# Altium schematic symbol library kmilo17pet-NSC_Interface.SchLib: 1433 symbols (part 21 of 51)
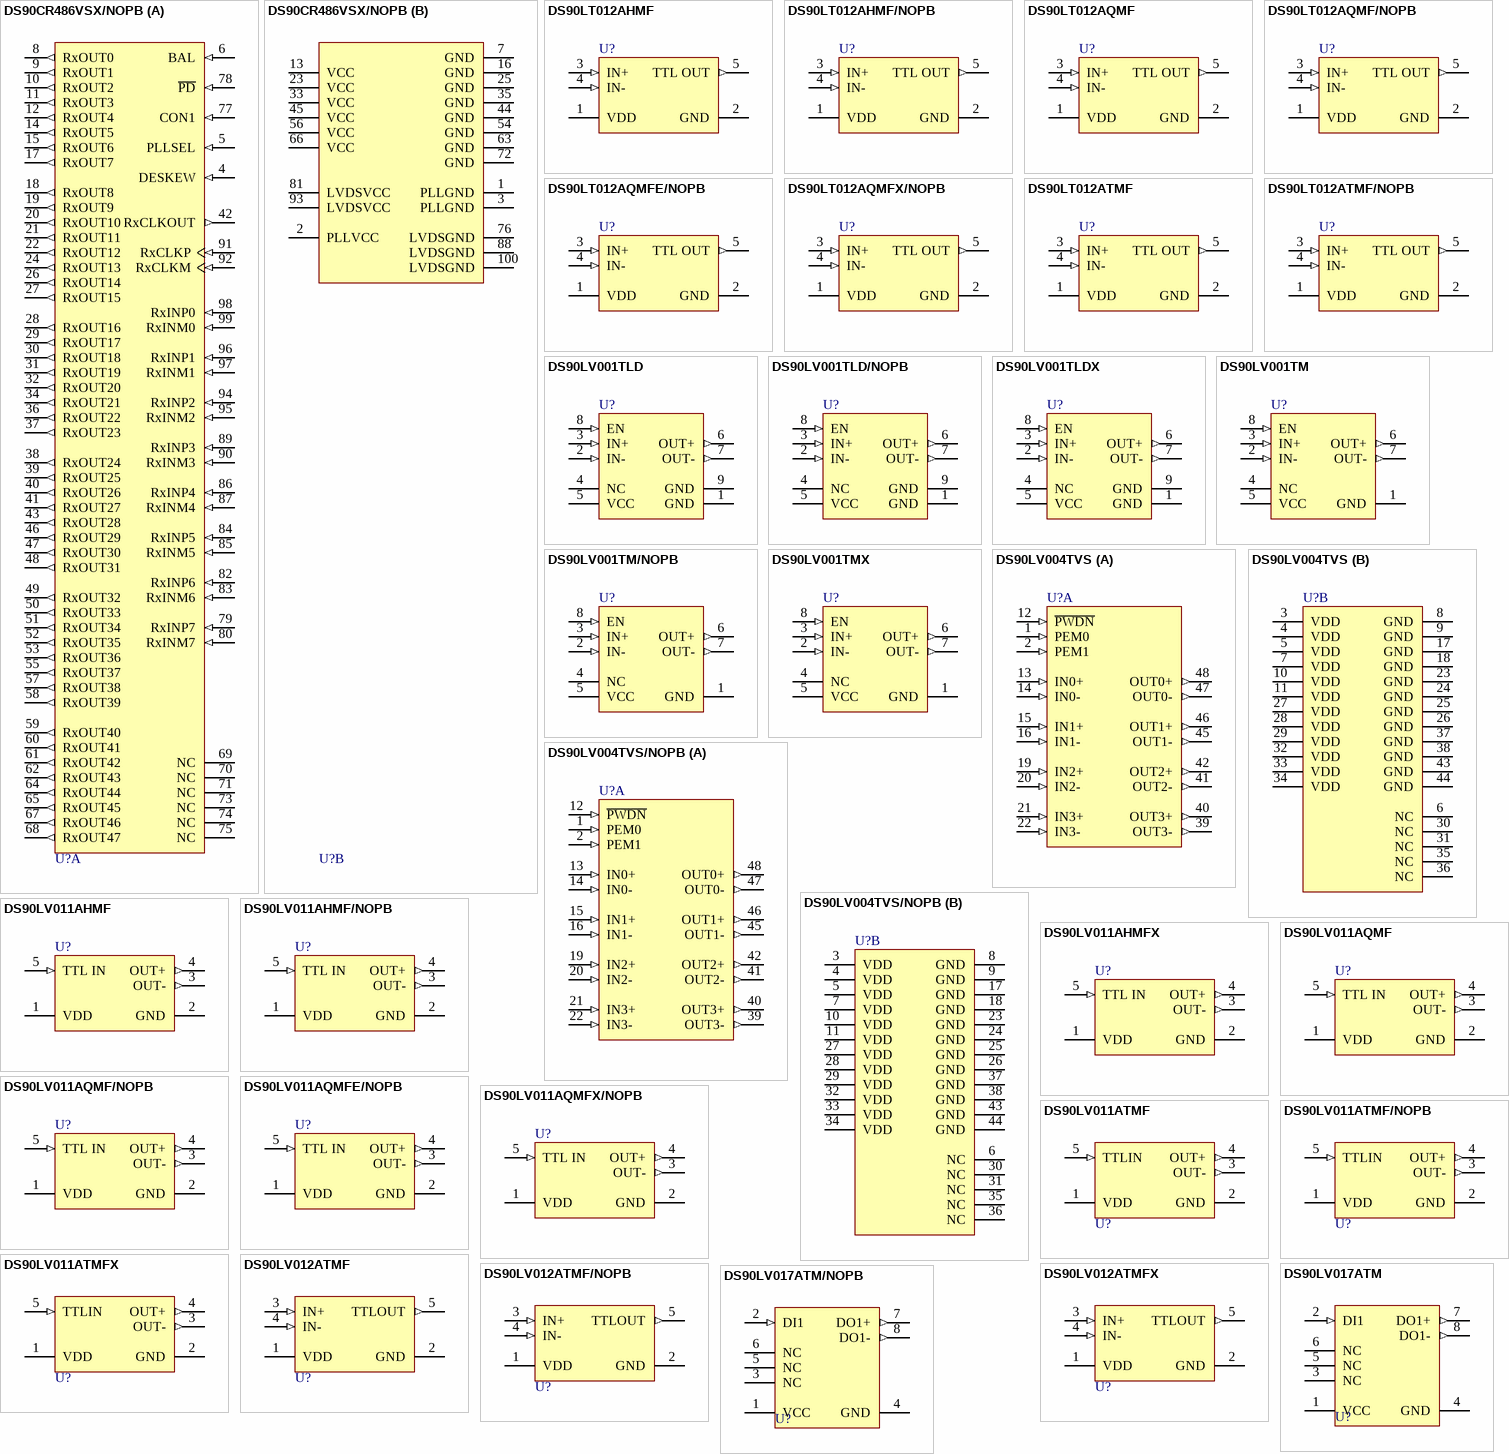
[diagram p144: symbols DS90CR486VSX/NOPB to DS90LV017ATM/NOPB]

## DS90LV004TVS/NOPB
designator U?
4-Channel LVDS Buffer/Repeaters with Pre-Emphasis, 48-pin TQFP, Pb-Free; PartNumber: DS90LV004TVS/NOPB; Manufacturer: National Semiconductor; PackageTopMarking: NSUZXYTT*DS90LV*004TVS; PowerWise: N; CompType: Interface IC; High-Reliability: Y; DatasheetVersion: Mar-2009; PackageVersion: revA, Apr-2000; PackageReference: VBC48A; PackageDescription: TQFP, Jedec Metric, 7 x 7 x 1mm, 48 Lead, 0.5mm Pitch; RoHS: Y; PinCount: 48; Code_JEDEC: MS-026-ABC; ComponentLink1Description: Manufacturer URL; ComponentLink1URL: http://www.national.com/; ComponentLink2Description: DS90LV004 Datasheet; ComponentLink2URL: http://www.national.com/ds/DS/DS90LV004.pdf; ComponentLink3Description: DS90LV004 Web Page; ComponentLink3URL: http://www.national.com/pf/DS/DS90LV004.html; ComponentLink4Description: VBC48A Package Page; ComponentLink4URL: http://www.national.com/packaging/folders/vbc48a.html
footprint VBC48A_N (Thin QFP, 48-Leads, Body 7x7mm, Pitch 0.5mm, IPC Medium Density)
footprint VBC48A_L (Thin QFP, 48-Leads, Body 7x7mm, Pitch 0.5mm, IPC High Density)
footprint VBC48A_M (Thin QFP, 48-Leads, Body 7x7mm, Pitch 0.5mm, IPC Low Density)
part A pins: 1 PEM0 (in), 2 PEM1 (in), 12 ~{PWDN} (in), 13 IN0+ (in), 14 IN0- (in), 15 IN1+ (in), 16 IN1- (in), 19 IN2+ (in), 20 IN2- (in), 21 IN3+ (in), 22 IN3- (in), 39 OUT3- (out), 40 OUT3+ (out), 41 OUT2- (out), 42 OUT2+ (out), 45 OUT1- (out), 46 OUT1+ (out), 47 OUT0- (out), 48 OUT0+ (out)
part B pins: 3 VDD (power), 4 VDD (power), 5 VDD (power), 6 NC, 7 VDD (power), 8 GND (power), 9 GND (power), 10 VDD (power), 11 VDD (power), 17 GND (power), 18 GND (power), 23 GND (power), 24 GND (power), 25 GND (power), 26 GND (power), 27 VDD (power), 28 VDD (power), 29 VDD (power), 30 NC, 31 NC, 32 VDD (power), 33 VDD (power), 34 VDD (power), 35 NC, 36 NC, 37 GND (power), 38 GND (power), 43 GND (power), 44 GND (power)

## DS90LV011AHMF
designator U?
High Temperature 3V LVDS Differential Driver, 5-pin SOT-23; PartNumber: DS90LV011AHMF; Manufacturer: National Semiconductor; PackageTopMarking: N04*XTT; PowerWise: N; CompType: Interface IC; High-Reliability: Y; DatasheetVersion: Sep-2005; PackageVersion: revD, Aug-2008; PackageReference: MF05A; PackageDescription: Molded SOT-23, .115 x .063 x .040 in Body, 5 Lead, .0375 in Pitch; RoHS: N; PinCount: 5; ComponentLink1Description: Manufacturer URL; ComponentLink1URL: http://www.national.com/; ComponentLink2Description: DS90LV011AH Datasheet; ComponentLink2URL: http://www.national.com/ds/DS/DS90LV011AH.pdf; ComponentLink3Description: DS90LV011AH Web Page; ComponentLink3URL: http://www.national.com/pf/DS/DS90LV011AH.html; ComponentLink4Description: MF05A Package Page; ComponentLink4URL: http://www.national.com/packaging/folders/mf05a.html
footprint MF05A_N (SOT23, 5-Leads, Body 2.9x1.6mm, Pitch 0.95mm, Lead Span 2.8mm, IPC Medium Density)
footprint MF05A_L (SOT23, 5-Leads, Body 2.9x1.6mm, Pitch 0.95mm, Lead Span 2.8mm, IPC High Density)
footprint MF05A_M (SOT23, 5-Leads, Body 2.9x1.6mm, Pitch 0.95mm, Lead Span 2.8mm, IPC Low Density)
pins: 1 VDD (power), 2 GND (power), 3 OUT- (out), 4 OUT+ (out), 5 TTL IN (in)

## DS90LV011AHMF/NOPB
designator U?
High Temperature 3V LVDS Differential Driver, 5 pin SOT-23; PartNumber: DS90LV011AHMF/NOPB; Manufacturer: National Semiconductor; PackageTopMarking: N04*XTT; PowerWise: N; CompType: Interface IC; High-Reliability: Y; DatasheetVersion: Sep-2005; PackageVersion: revD, Aug-2008; PackageReference: MF05A; PackageDescription: Molded SOT-23, .115 x .063 x .040 in Body, 5 Lead, .0375 in Pitch; RoHS: Y; PinCount: 5; ComponentLink1Description: Manufacturer URL; ComponentLink1URL: http://www.national.com/; ComponentLink2Description: DS90LV011AH Datasheet; ComponentLink2URL: http://www.national.com/ds/DS/DS90LV011AH.pdf; ComponentLink3Description: DS90LV011AH Web Page; ComponentLink3URL: http://www.national.com/pf/DS/DS90LV011AH.html; ComponentLink4Description: MF05A Package Page; ComponentLink4URL: http://www.national.com/packaging/folders/mf05a.html
footprint MF05A_N (SOT23, 5-Leads, Body 2.9x1.6mm, Pitch 0.95mm, Lead Span 2.8mm, IPC Medium Density)
footprint MF05A_L (SOT23, 5-Leads, Body 2.9x1.6mm, Pitch 0.95mm, Lead Span 2.8mm, IPC High Density)
footprint MF05A_M (SOT23, 5-Leads, Body 2.9x1.6mm, Pitch 0.95mm, Lead Span 2.8mm, IPC Low Density)
pins: 1 VDD (power), 2 GND (power), 3 OUT- (out), 4 OUT+ (out), 5 TTL IN (in)

## DS90LV011AHMFX
designator U?
High Temperature 3V LVDS Differential Driver, 5 pin SOT-23; PartNumber: DS90LV011AHMFX; Manufacturer: National Semiconductor; PackageTopMarking: N04*XTT; PowerWise: N; CompType: Interface IC; High-Reliability: Y; DatasheetVersion: Sep-2005; PackageVersion: revD, Aug-2008; PackageReference: MF05A; PackageDescription: Molded SOT-23, .115 x .063 x .040 in Body, 5 Lead, .0375 in Pitch; RoHS: N; PinCount: 5; ComponentLink1Description: Manufacturer URL; ComponentLink1URL: http://www.national.com/; ComponentLink2Description: DS90LV011AH Datasheet; ComponentLink2URL: http://www.national.com/ds/DS/DS90LV011AH.pdf; ComponentLink3Description: DS90LV011AH Web Page; ComponentLink3URL: http://www.national.com/pf/DS/DS90LV011AH.html; ComponentLink4Description: MF05A Package Page; ComponentLink4URL: http://www.national.com/packaging/folders/mf05a.html
footprint MF05A_N (SOT23, 5-Leads, Body 2.9x1.6mm, Pitch 0.95mm, Lead Span 2.8mm, IPC Medium Density)
footprint MF05A_L (SOT23, 5-Leads, Body 2.9x1.6mm, Pitch 0.95mm, Lead Span 2.8mm, IPC High Density)
footprint MF05A_M (SOT23, 5-Leads, Body 2.9x1.6mm, Pitch 0.95mm, Lead Span 2.8mm, IPC Low Density)
pins: 1 VDD (power), 2 GND (power), 3 OUT- (out), 4 OUT+ (out), 5 TTL IN (in)

## DS90LV011AQMF
designator U?
Automotive LVDS Differential Driver, 5-pin SOT-23; PartNumber: DS90LV011AQMF; Manufacturer: National Semiconductor; PackageTopMarking: N01Q*XTT; PowerWise: N; CompType: Interface IC; High-Reliability: Y; DatasheetVersion: Oct-2008; PackageVersion: revD, Aug-2008; PackageReference: MF05A; PackageDescription: Molded SOT-23, .115 x .063 x .040 in Body, 5 Lead, .0375 in Pitch; RoHS: Y; PinCount: 5; ComponentLink1Description: Manufacturer URL; ComponentLink1URL: http://www.national.com/; ComponentLink2Description: DS90LV011AQ Datasheet; ComponentLink2URL: http://www.national.com/ds/DS/DS90LV011AQ.pdf; ComponentLink3Description: DS90LV011AQ Web Page; ComponentLink3URL: http://www.national.com/pf/DS/DS90LV011AQ.html; ComponentLink4Description: MF05A Package Page; ComponentLink4URL: http://www.national.com/packaging/folders/mf05a.html
footprint MF05A_N (SOT23, 5-Leads, Body 2.9x1.6mm, Pitch 0.95mm, Lead Span 2.8mm, IPC Medium Density)
footprint MF05A_L (SOT23, 5-Leads, Body 2.9x1.6mm, Pitch 0.95mm, Lead Span 2.8mm, IPC High Density)
footprint MF05A_M (SOT23, 5-Leads, Body 2.9x1.6mm, Pitch 0.95mm, Lead Span 2.8mm, IPC Low Density)
pins: 1 VDD (power), 2 GND (power), 3 OUT- (out), 4 OUT+ (out), 5 TTL IN (in)

## DS90LV011AQMF/NOPB
designator U?
Automotive LVDS Differential Driver, 5-pin SOT-23, Pb-Free; PartNumber: DS90LV011AQMF/NOPB; Manufacturer: National Semiconductor; PackageTopMarking: N01Q*XTT; PowerWise: N; CompType: Interface IC; High-Reliability: Y; DatasheetVersion: Oct-2008; PackageVersion: revD, Aug-2008; PackageReference: MF05A; PackageDescription: Molded SOT-23, .115 x .063 x .040 in Body, 5 Lead, .0375 in Pitch; RoHS: Y; PinCount: 5; ComponentLink1Description: Manufacturer URL; ComponentLink1URL: http://www.national.com/; ComponentLink2Description: DS90LV011AQ Datasheet; ComponentLink2URL: http://www.national.com/ds/DS/DS90LV011AQ.pdf; ComponentLink3Description: DS90LV011AQ Web Page; ComponentLink3URL: http://www.national.com/pf/DS/DS90LV011AQ.html; ComponentLink4Description: MF05A Package Page; ComponentLink4URL: http://www.national.com/packaging/folders/mf05a.html
footprint MF05A_N (SOT23, 5-Leads, Body 2.9x1.6mm, Pitch 0.95mm, Lead Span 2.8mm, IPC Medium Density)
footprint MF05A_L (SOT23, 5-Leads, Body 2.9x1.6mm, Pitch 0.95mm, Lead Span 2.8mm, IPC High Density)
footprint MF05A_M (SOT23, 5-Leads, Body 2.9x1.6mm, Pitch 0.95mm, Lead Span 2.8mm, IPC Low Density)
pins: 1 VDD (power), 2 GND (power), 3 OUT- (out), 4 OUT+ (out), 5 TTL IN (in)

## DS90LV011AQMFE/NOPB
designator U?
Automotive LVDS Differential Driver, 5-pin SOT-23, Pb-Free; PartNumber: DS90LV011AQMFE/NOPB; Manufacturer: National Semiconductor; PackageTopMarking: N01Q*XTT; PowerWise: N; CompType: Interface IC; High-Reliability: Y; DatasheetVersion: Oct-2008; PackageVersion: revD, Aug-2008; PackageReference: MF05A; PackageDescription: Molded SOT-23, .115 x .063 x .040 in Body, 5 Lead, .0375 in Pitch; RoHS: Y; PinCount: 5; ComponentLink1Description: Manufacturer URL; ComponentLink1URL: http://www.national.com/; ComponentLink2Description: DS90LV011AQ Datasheet; ComponentLink2URL: http://www.national.com/ds/DS/DS90LV011AQ.pdf; ComponentLink3Description: DS90LV011AQ Web Page; ComponentLink3URL: http://www.national.com/pf/DS/DS90LV011AQ.html; ComponentLink4Description: MF05A Package Page; ComponentLink4URL: http://www.national.com/packaging/folders/mf05a.html
footprint MF05A_N (SOT23, 5-Leads, Body 2.9x1.6mm, Pitch 0.95mm, Lead Span 2.8mm, IPC Medium Density)
footprint MF05A_L (SOT23, 5-Leads, Body 2.9x1.6mm, Pitch 0.95mm, Lead Span 2.8mm, IPC High Density)
footprint MF05A_M (SOT23, 5-Leads, Body 2.9x1.6mm, Pitch 0.95mm, Lead Span 2.8mm, IPC Low Density)
pins: 1 VDD (power), 2 GND (power), 3 OUT- (out), 4 OUT+ (out), 5 TTL IN (in)

## DS90LV011AQMFX/NOPB
designator U?
Automotive LVDS Differential Driver, 5-pin SOT-23, Pb-Free; PartNumber: DS90LV011AQMFX/NOPB; Manufacturer: National Semiconductor; PackageTopMarking: N01Q*XTT; PowerWise: N; CompType: Interface IC; High-Reliability: Y; DatasheetVersion: Oct-2008; PackageVersion: revD, Aug-2008; PackageReference: MF05A; PackageDescription: Molded SOT-23, .115 x .063 x .040 in Body, 5 Lead, .0375 in Pitch; RoHS: Y; PinCount: 5; ComponentLink1Description: Manufacturer URL; ComponentLink1URL: http://www.national.com/; ComponentLink2Description: DS90LV011AQ Datasheet; ComponentLink2URL: http://www.national.com/ds/DS/DS90LV011AQ.pdf; ComponentLink3Description: DS90LV011AQ Web Page; ComponentLink3URL: http://www.national.com/pf/DS/DS90LV011AQ.html; ComponentLink4Description: MF05A Package Page; ComponentLink4URL: http://www.national.com/packaging/folders/mf05a.html
footprint MF05A_N (SOT23, 5-Leads, Body 2.9x1.6mm, Pitch 0.95mm, Lead Span 2.8mm, IPC Medium Density)
footprint MF05A_L (SOT23, 5-Leads, Body 2.9x1.6mm, Pitch 0.95mm, Lead Span 2.8mm, IPC High Density)
footprint MF05A_M (SOT23, 5-Leads, Body 2.9x1.6mm, Pitch 0.95mm, Lead Span 2.8mm, IPC Low Density)
pins: 1 VDD (power), 2 GND (power), 3 OUT- (out), 4 OUT+ (out), 5 TTL IN (in)

## DS90LV011ATMF
designator U?
Single High Speed Differential Driver, 5-pin SOT-23; PartNumber: DS90LV011ATMF; Manufacturer: National Semiconductor; PackageTopMarking: N01*XTT; PowerWise: N; CompType: Interface IC; High-Reliability: Y; DatasheetVersion: Apr-2009; PackageVersion: revD, Aug-2008; PackageReference: MF05A; PackageDescription: Molded SOT-23, .115 x .063 x .040 in Body, 5 Lead, .0375 in Pitch; RoHS: N; PinCount: 5; ComponentLink1Description: Manufacturer URL; ComponentLink1URL: http://www.national.com/; ComponentLink2Description: DS90LV011A Datasheet; ComponentLink2URL: http://www.national.com/ds/DS/DS90LV011A.pdf; ComponentLink3Description: DS90LV011A Web Page; ComponentLink3URL: http://www.national.com/pf/DS/DS90LV011A.html; ComponentLink4Description: MF05A Package Page; ComponentLink4URL: http://www.national.com/packaging/folders/mf05a.html
footprint MF05A_N (SOT23, 5-Leads, Body 2.9x1.6mm, Pitch 0.95mm, Lead Span 2.8mm, IPC Medium Density)
footprint MF05A_L (SOT23, 5-Leads, Body 2.9x1.6mm, Pitch 0.95mm, Lead Span 2.8mm, IPC High Density)
footprint MF05A_M (SOT23, 5-Leads, Body 2.9x1.6mm, Pitch 0.95mm, Lead Span 2.8mm, IPC Low Density)
pins: 1 VDD (power), 2 GND (power), 3 OUT- (out), 4 OUT+ (out), 5 TTLIN (in)

## DS90LV011ATMF/NOPB
designator U?
Single High Speed Differential Driver, 5-pin SOT-23, Pb-Free; PartNumber: DS90LV011ATMF/NOPB; Manufacturer: National Semiconductor; PackageTopMarking: N01*XTT; PowerWise: N; CompType: Interface IC; High-Reliability: Y; DatasheetVersion: Apr-2009; PackageVersion: revD, Aug-2008; PackageReference: MF05A; PackageDescription: Molded SOT-23, .115 x .063 x .040 in Body, 5 Lead, .0375 in Pitch; RoHS: Y; PinCount: 5; ComponentLink1Description: Manufacturer URL; ComponentLink1URL: http://www.national.com/; ComponentLink2Description: DS90LV011A Datasheet; ComponentLink2URL: http://www.national.com/ds/DS/DS90LV011A.pdf; ComponentLink3Description: DS90LV011A Web Page; ComponentLink3URL: http://www.national.com/pf/DS/DS90LV011A.html; ComponentLink4Description: MF05A Package Page; ComponentLink4URL: http://www.national.com/packaging/folders/mf05a.html
footprint MF05A_N (SOT23, 5-Leads, Body 2.9x1.6mm, Pitch 0.95mm, Lead Span 2.8mm, IPC Medium Density)
footprint MF05A_L (SOT23, 5-Leads, Body 2.9x1.6mm, Pitch 0.95mm, Lead Span 2.8mm, IPC High Density)
footprint MF05A_M (SOT23, 5-Leads, Body 2.9x1.6mm, Pitch 0.95mm, Lead Span 2.8mm, IPC Low Density)
pins: 1 VDD (power), 2 GND (power), 3 OUT- (out), 4 OUT+ (out), 5 TTLIN (in)

## DS90LV011ATMFX
designator U?
Single High Speed Differential Driver, 5-pin SOT-23; PartNumber: DS90LV011ATMFX; Manufacturer: National Semiconductor; PackageTopMarking: N01*XTT; PowerWise: N; CompType: Interface IC; High-Reliability: Y; DatasheetVersion: Apr-2009; PackageVersion: revD, Aug-2008; PackageReference: MF05A; PackageDescription: Molded SOT-23, .115 x .063 x .040 in Body, 5 Lead, .0375 in Pitch; RoHS: N; PinCount: 5; ComponentLink1Description: Manufacturer URL; ComponentLink1URL: http://www.national.com/; ComponentLink2Description: DS90LV011A Datasheet; ComponentLink2URL: http://www.national.com/ds/DS/DS90LV011A.pdf; ComponentLink3Description: DS90LV011A Web Page; ComponentLink3URL: http://www.national.com/pf/DS/DS90LV011A.html; ComponentLink4Description: MF05A Package Page; ComponentLink4URL: http://www.national.com/packaging/folders/mf05a.html
footprint MF05A_N (SOT23, 5-Leads, Body 2.9x1.6mm, Pitch 0.95mm, Lead Span 2.8mm, IPC Medium Density)
footprint MF05A_L (SOT23, 5-Leads, Body 2.9x1.6mm, Pitch 0.95mm, Lead Span 2.8mm, IPC High Density)
footprint MF05A_M (SOT23, 5-Leads, Body 2.9x1.6mm, Pitch 0.95mm, Lead Span 2.8mm, IPC Low Density)
pins: 1 VDD (power), 2 GND (power), 3 OUT- (out), 4 OUT+ (out), 5 TTLIN (in)

## DS90LV012ATMF
designator U?
3V LVDS Single CMOS Differential Line Receiver, 5-pin SOT-23; PartNumber: DS90LV012ATMF; Manufacturer: National Semiconductor; PackageTopMarking: N02*XTT; PowerWise: N; CompType: Interface IC; High-Reliability: Y; DatasheetVersion: Mar-2008; PackageVersion: revD, Aug-2008; PackageReference: MF05A; PackageDescription: Molded SOT-23, .115 x .063 x .040 in Body, 5 Lead, .0375 in Pitch; RoHS: N; PinCount: 5; ComponentLink1Description: Manufacturer URL; ComponentLink1URL: http://www.national.com/; ComponentLink2Description: DS90LV012A Datasheet; ComponentLink2URL: http://www.national.com/ds/DS/DS90LV012A.pdf; ComponentLink3Description: DS90LV012A Web Page; ComponentLink3URL: http://www.national.com/pf/DS/DS90LV012A.html; ComponentLink4Description: MF05A Package Page; ComponentLink4URL: http://www.national.com/packaging/folders/mf05a.html
footprint MF05A_N (SOT23, 5-Leads, Body 2.9x1.6mm, Pitch 0.95mm, Lead Span 2.8mm, IPC Medium Density)
footprint MF05A_L (SOT23, 5-Leads, Body 2.9x1.6mm, Pitch 0.95mm, Lead Span 2.8mm, IPC High Density)
footprint MF05A_M (SOT23, 5-Leads, Body 2.9x1.6mm, Pitch 0.95mm, Lead Span 2.8mm, IPC Low Density)
pins: 1 VDD (power), 2 GND (power), 3 IN+ (in), 4 IN- (in), 5 TTLOUT (out)

## DS90LV012ATMF/NOPB
designator U?
3V LVDS Single CMOS Differential Line Receiver, 5-pin SOT-23, Pb-Free; PartNumber: DS90LV012ATMF/NOPB; Manufacturer: National Semiconductor; PackageTopMarking: N02*XTT; PowerWise: N; CompType: Interface IC; High-Reliability: Y; DatasheetVersion: Mar-2008; PackageVersion: revD, Aug-2008; PackageReference: MF05A; PackageDescription: Molded SOT-23, .115 x .063 x .040 in Body, 5 Lead, .0375 in Pitch; RoHS: Y; PinCount: 5; ComponentLink1Description: Manufacturer URL; ComponentLink1URL: http://www.national.com/; ComponentLink2Description: DS90LV012A Datasheet; ComponentLink2URL: http://www.national.com/ds/DS/DS90LV012A.pdf; ComponentLink3Description: DS90LV012A Web Page; ComponentLink3URL: http://www.national.com/pf/DS/DS90LV012A.html; ComponentLink4Description: MF05A Package Page; ComponentLink4URL: http://www.national.com/packaging/folders/mf05a.html
footprint MF05A_N (SOT23, 5-Leads, Body 2.9x1.6mm, Pitch 0.95mm, Lead Span 2.8mm, IPC Medium Density)
footprint MF05A_L (SOT23, 5-Leads, Body 2.9x1.6mm, Pitch 0.95mm, Lead Span 2.8mm, IPC High Density)
footprint MF05A_M (SOT23, 5-Leads, Body 2.9x1.6mm, Pitch 0.95mm, Lead Span 2.8mm, IPC Low Density)
pins: 1 VDD (power), 2 GND (power), 3 IN+ (in), 4 IN- (in), 5 TTLOUT (out)

## DS90LV012ATMFX
designator U?
3V LVDS Single CMOS Differential Line Receiver, 5-pin SOT-23; PartNumber: DS90LV012ATMFX; Manufacturer: National Semiconductor; PackageTopMarking: N02*XTT; PowerWise: N; CompType: Interface IC; High-Reliability: Y; DatasheetVersion: Mar-2008; PackageVersion: revD, Aug-2008; PackageReference: MF05A; PackageDescription: Molded SOT-23, .115 x .063 x .040 in Body, 5 Lead, .0375 in Pitch; RoHS: N; PinCount: 5; ComponentLink1Description: Manufacturer URL; ComponentLink1URL: http://www.national.com/; ComponentLink2Description: DS90LV012A Datasheet; ComponentLink2URL: http://www.national.com/ds/DS/DS90LV012A.pdf; ComponentLink3Description: DS90LV012A Web Page; ComponentLink3URL: http://www.national.com/pf/DS/DS90LV012A.html; ComponentLink4Description: MF05A Package Page; ComponentLink4URL: http://www.national.com/packaging/folders/mf05a.html
footprint MF05A_N (SOT23, 5-Leads, Body 2.9x1.6mm, Pitch 0.95mm, Lead Span 2.8mm, IPC Medium Density)
footprint MF05A_L (SOT23, 5-Leads, Body 2.9x1.6mm, Pitch 0.95mm, Lead Span 2.8mm, IPC High Density)
footprint MF05A_M (SOT23, 5-Leads, Body 2.9x1.6mm, Pitch 0.95mm, Lead Span 2.8mm, IPC Low Density)
pins: 1 VDD (power), 2 GND (power), 3 IN+ (in), 4 IN- (in), 5 TTLOUT (out)

## DS90LV017ATM
designator U?
Single High Speed Differential Driver, 8-pin Narrow SOIC; PartNumber: DS90LV017ATM; Manufacturer: National Semiconductor; PackageTopMarking: NSZXTT*LV17A*TM; PowerWise: N; CompType: Interface IC; High-Reliability: Y; DatasheetVersion: Aug-2005; PackageVersion: revM, May-2009; PackageReference: M08A; PackageDescription: SOIC Narrow, 4.9 x 3.9 x 1.45mm, 8 Lead, 1.27mm Pitch; RoHS: N; PinCount: 8; Code_JEDEC: MS-012-AA; Code_IPC: SOIC127P600-8; ComponentLink1Description: Manufacturer URL; ComponentLink1URL: http://www.national.com/; ComponentLink2Description: DS90LV017A Datasheet; ComponentLink2URL: http://www.national.com/ds/DS/DS90LV017A.pdf; ComponentLink3Description: DS90LV017A Web Page; ComponentLink3URL: http://www.national.com/pf/DS/DS90LV017A.html; ComponentLink4Description: M08A Package Page; ComponentLink4URL: http://www.national.com/packaging/folders/m08a.html
footprint M08A_N (SOIC, 8-Leads, Body 4.9x3.9mm, Pitch 1.27mm, IPC Medium Density)
footprint M08A_L (SOIC, 8-Leads, Body 4.9x3.9mm, Pitch 1.27mm, IPC High Density)
footprint M08A_M (SOIC, 8-Leads, Body 4.9x3.9mm, Pitch 1.27mm, IPC Low Density)
pins: 1 VCC (power), 2 DI1 (in), 3 NC, 4 GND (power), 5 NC, 6 NC, 7 DO1+ (out), 8 DO1- (out)

## DS90LV017ATM/NOPB
designator U?
Single High Speed Differential Driver, 8-pin Narrow SOIC, Pb-Free; PartNumber: DS90LV017ATM/NOPB; Manufacturer: National Semiconductor; PackageTopMarking: NSZXTT*LV17A*TM; PowerWise: N; CompType: Interface IC; High-Reliability: Y; DatasheetVersion: Aug-2005; PackageVersion: revM, May-2009; PackageReference: M08A; PackageDescription: SOIC Narrow, 4.9 x 3.9 x 1.45mm, 8 Lead, 1.27mm Pitch; RoHS: Y; PinCount: 8; Code_JEDEC: MS-012-AA; Code_IPC: SOIC127P600-8; ComponentLink1Description: Manufacturer URL; ComponentLink1URL: http://www.national.com/; ComponentLink2Description: DS90LV017A Datasheet; ComponentLink2URL: http://www.national.com/ds/DS/DS90LV017A.pdf; ComponentLink3Description: DS90LV017A Web Page; ComponentLink3URL: http://www.national.com/pf/DS/DS90LV017A.html; ComponentLink4Description: M08A Package Page; ComponentLink4URL: http://www.national.com/packaging/folders/m08a.html
footprint M08A_N (SOIC, 8-Leads, Body 4.9x3.9mm, Pitch 1.27mm, IPC Medium Density)
footprint M08A_L (SOIC, 8-Leads, Body 4.9x3.9mm, Pitch 1.27mm, IPC High Density)
footprint M08A_M (SOIC, 8-Leads, Body 4.9x3.9mm, Pitch 1.27mm, IPC Low Density)
pins: 1 VCC (power), 2 DI1 (in), 3 NC, 4 GND (power), 5 NC, 6 NC, 7 DO1+ (out), 8 DO1- (out)

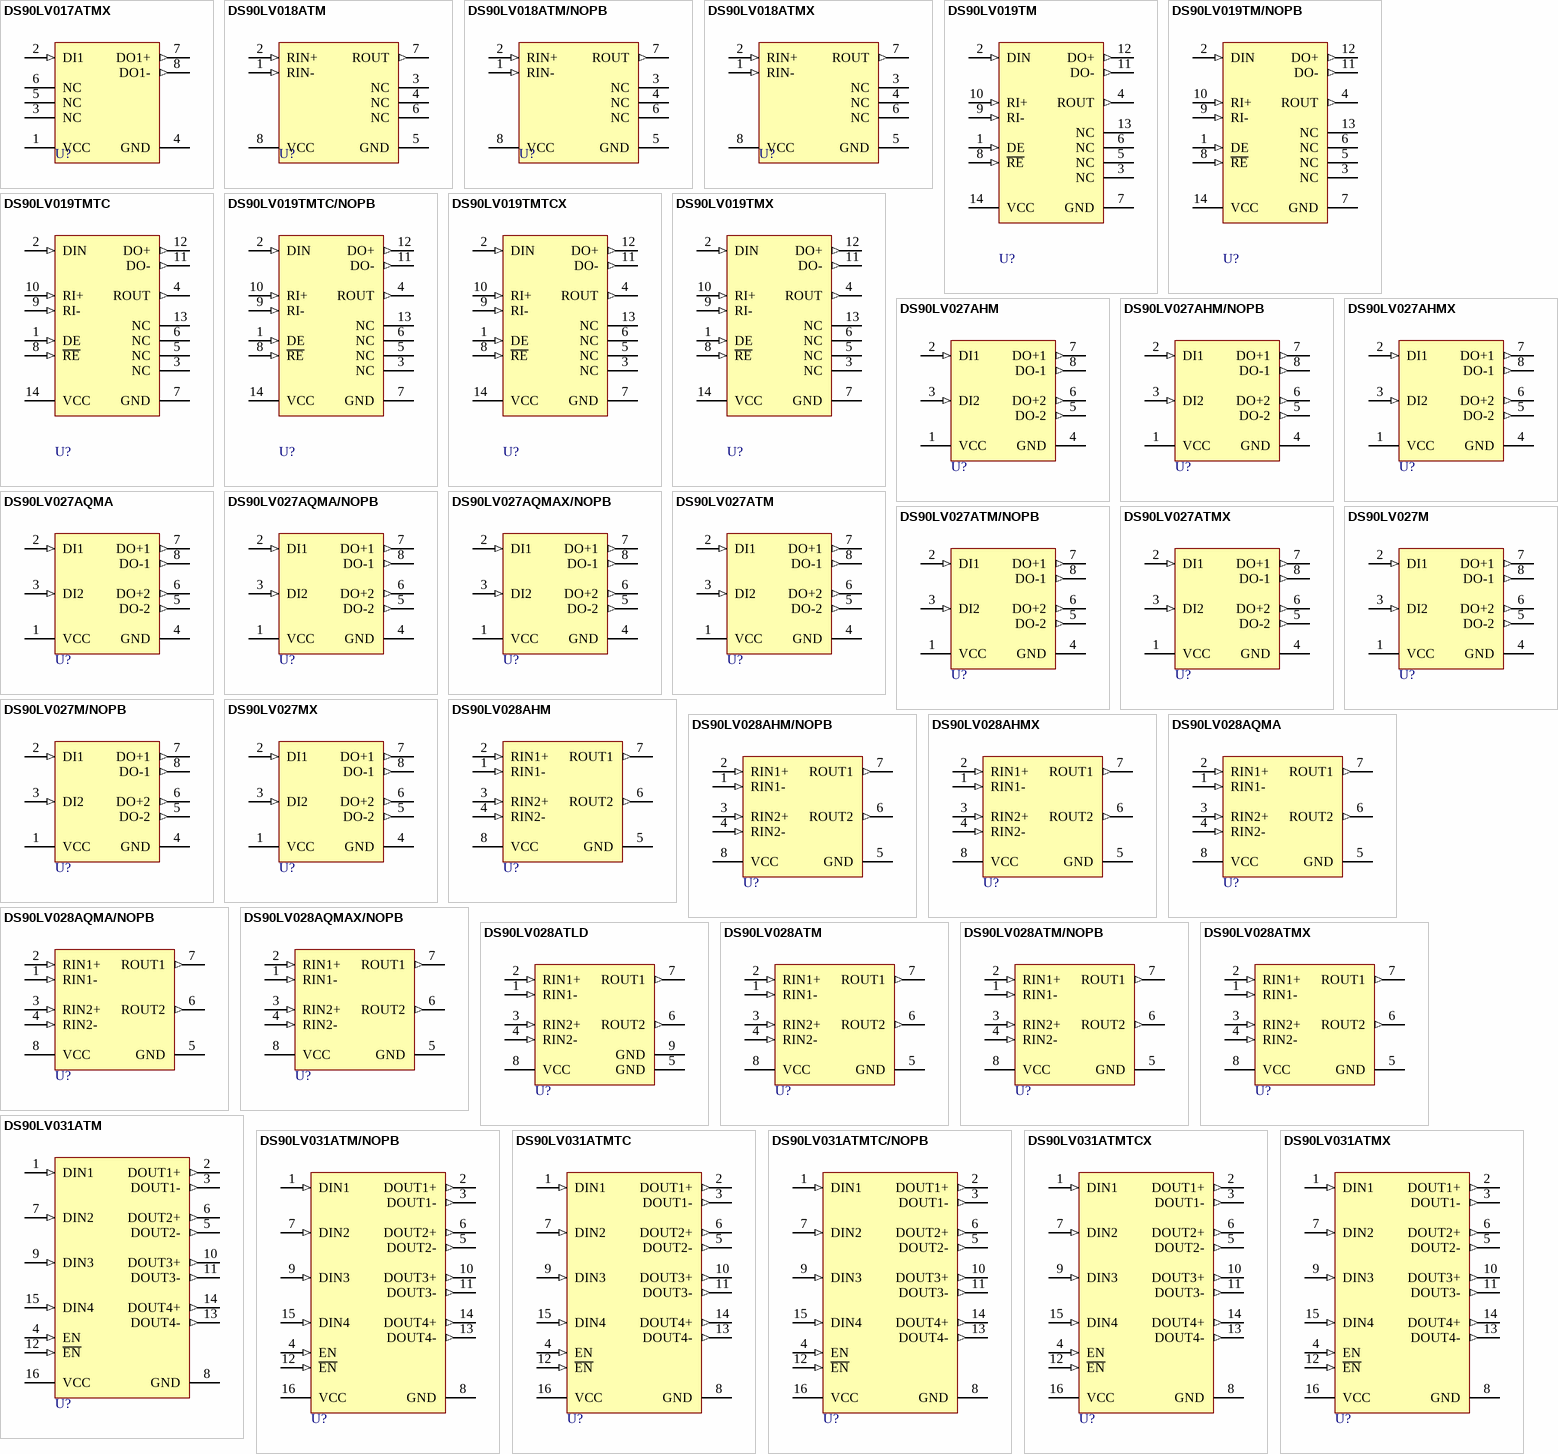
[diagram p60: symbols DS90LV017ATMX to DS90LV031ATMX]

## DS90LV017ATMX
designator U?
Single High Speed Differential Driver, 8-pin Narrow SOIC; PartNumber: DS90LV017ATMX; Manufacturer: National Semiconductor; PackageTopMarking: NSZXTT*LV17A*TM; PowerWise: N; CompType: Interface IC; High-Reliability: Y; DatasheetVersion: Aug-2005; PackageVersion: revM, May-2009; PackageReference: M08A; PackageDescription: SOIC Narrow, 4.9 x 3.9 x 1.45mm, 8 Lead, 1.27mm Pitch; RoHS: N; PinCount: 8; Code_JEDEC: MS-012-AA; Code_IPC: SOIC127P600-8; ComponentLink1Description: Manufacturer URL; ComponentLink1URL: http://www.national.com/; ComponentLink2Description: DS90LV017A Datasheet; ComponentLink2URL: http://www.national.com/ds/DS/DS90LV017A.pdf; ComponentLink3Description: DS90LV017A Web Page; ComponentLink3URL: http://www.national.com/pf/DS/DS90LV017A.html; ComponentLink4Description: M08A Package Page; ComponentLink4URL: http://www.national.com/packaging/folders/m08a.html
footprint M08A_N (SOIC, 8-Leads, Body 4.9x3.9mm, Pitch 1.27mm, IPC Medium Density)
footprint M08A_L (SOIC, 8-Leads, Body 4.9x3.9mm, Pitch 1.27mm, IPC High Density)
footprint M08A_M (SOIC, 8-Leads, Body 4.9x3.9mm, Pitch 1.27mm, IPC Low Density)
pins: 1 VCC (power), 2 DI1 (in), 3 NC, 4 GND (power), 5 NC, 6 NC, 7 DO1+ (out), 8 DO1- (out)

## DS90LV018ATM
designator U?
3V LVDS Single CMOS Differential Line Receiver, 8-pin Narrow SOIC; PartNumber: DS90LV018ATM; Manufacturer: National Semiconductor; PackageTopMarking: NSZXTT*90LV0*18ATM; PowerWise: N; CompType: Interface IC; High-Reliability: Y; DatasheetVersion: Aug-2005; PackageVersion: revM, May-2009; PackageReference: M08A; PackageDescription: SOIC Narrow, 4.9 x 3.9 x 1.45mm, 8 Lead, 1.27mm Pitch; RoHS: N; PinCount: 8; Code_JEDEC: MS-012-AA; Code_IPC: SOIC127P600-8; ComponentLink1Description: Manufacturer URL; ComponentLink1URL: http://www.national.com/; ComponentLink2Description: DS90LV018A Datasheet; ComponentLink2URL: http://www.national.com/ds/DS/DS90LV018A.pdf; ComponentLink3Description: DS90LV018A Web Page; ComponentLink3URL: http://www.national.com/pf/DS/DS90LV018A.html; ComponentLink4Description: M08A Package Page; ComponentLink4URL: http://www.national.com/packaging/folders/m08a.html
footprint M08A_N (SOIC, 8-Leads, Body 4.9x3.9mm, Pitch 1.27mm, IPC Medium Density)
footprint M08A_L (SOIC, 8-Leads, Body 4.9x3.9mm, Pitch 1.27mm, IPC High Density)
footprint M08A_M (SOIC, 8-Leads, Body 4.9x3.9mm, Pitch 1.27mm, IPC Low Density)
pins: 1 RIN- (in), 2 RIN+ (in), 3 NC, 4 NC, 5 GND (power), 6 NC, 7 ROUT (out), 8 VCC (power)

## DS90LV018ATM/NOPB
designator U?
3V LVDS Single CMOS Differential Line Receiver, 8-pin Narrow SOIC, Pb-Free; PartNumber: DS90LV018ATM/NOPB; Manufacturer: National Semiconductor; PackageTopMarking: NSZXTT*90LV0*18ATM; PowerWise: N; CompType: Interface IC; High-Reliability: Y; DatasheetVersion: Aug-2005; PackageVersion: revM, May-2009; PackageReference: M08A; PackageDescription: SOIC Narrow, 4.9 x 3.9 x 1.45mm, 8 Lead, 1.27mm Pitch; RoHS: Y; PinCount: 8; Code_JEDEC: MS-012-AA; Code_IPC: SOIC127P600-8; ComponentLink1Description: Manufacturer URL; ComponentLink1URL: http://www.national.com/; ComponentLink2Description: DS90LV018A Datasheet; ComponentLink2URL: http://www.national.com/ds/DS/DS90LV018A.pdf; ComponentLink3Description: DS90LV018A Web Page; ComponentLink3URL: http://www.national.com/pf/DS/DS90LV018A.html; ComponentLink4Description: M08A Package Page; ComponentLink4URL: http://www.national.com/packaging/folders/m08a.html
footprint M08A_N (SOIC, 8-Leads, Body 4.9x3.9mm, Pitch 1.27mm, IPC Medium Density)
footprint M08A_L (SOIC, 8-Leads, Body 4.9x3.9mm, Pitch 1.27mm, IPC High Density)
footprint M08A_M (SOIC, 8-Leads, Body 4.9x3.9mm, Pitch 1.27mm, IPC Low Density)
pins: 1 RIN- (in), 2 RIN+ (in), 3 NC, 4 NC, 5 GND (power), 6 NC, 7 ROUT (out), 8 VCC (power)

## DS90LV018ATMX
designator U?
3V LVDS Single CMOS Differential Line Receiver, 8-pin Narrow SOIC; PartNumber: DS90LV018ATMX; Manufacturer: National Semiconductor; PackageTopMarking: NSZXTT*90LV0*18ATM; PowerWise: N; CompType: Interface IC; High-Reliability: Y; DatasheetVersion: Aug-2005; PackageVersion: revM, May-2009; PackageReference: M08A; PackageDescription: SOIC Narrow, 4.9 x 3.9 x 1.45mm, 8 Lead, 1.27mm Pitch; RoHS: N; PinCount: 8; Code_JEDEC: MS-012-AA; Code_IPC: SOIC127P600-8; ComponentLink1Description: Manufacturer URL; ComponentLink1URL: http://www.national.com/; ComponentLink2Description: DS90LV018A Datasheet; ComponentLink2URL: http://www.national.com/ds/DS/DS90LV018A.pdf; ComponentLink3Description: DS90LV018A Web Page; ComponentLink3URL: http://www.national.com/pf/DS/DS90LV018A.html; ComponentLink4Description: M08A Package Page; ComponentLink4URL: http://www.national.com/packaging/folders/m08a.html
footprint M08A_N (SOIC, 8-Leads, Body 4.9x3.9mm, Pitch 1.27mm, IPC Medium Density)
footprint M08A_L (SOIC, 8-Leads, Body 4.9x3.9mm, Pitch 1.27mm, IPC High Density)
footprint M08A_M (SOIC, 8-Leads, Body 4.9x3.9mm, Pitch 1.27mm, IPC Low Density)
pins: 1 RIN- (in), 2 RIN+ (in), 3 NC, 4 NC, 5 GND (power), 6 NC, 7 ROUT (out), 8 VCC (power)

## DS90LV019TM
designator U?
3.3V or 5V LVDS Driver/Receiver, 14-pin Narrow SOIC; PartNumber: DS90LV019TM; Manufacturer: National Semiconductor; PackageTopMarking: NSUZXYTTE#*DS90LV019*TM; PowerWise: N; CompType: Interface IC; High-Reliability: Y; DatasheetVersion: Aug-2000; PackageVersion: revJ, Jan-1996; PackageReference: M14A; PackageDescription: Molded Package S.O., .150in Wide, 14 Lead; RoHS: N; PinCount: 14; Code_JEDEC: MS-012AB; Code_IPC: SOIC127P600-14; ComponentLink1Description: Manufacturer URL; ComponentLink1URL: http://www.national.com/; ComponentLink2Description: DS90LV019 Datasheet; ComponentLink2URL: http://www.national.com/ds/DS/DS90LV019.pdf; ComponentLink3Description: DS90LV019 Web Page; ComponentLink3URL: http://www.national.com/pf/DS/DS90LV019.html; ComponentLink4Description: M14A Package Page; ComponentLink4URL: http://www.national.com/packaging/folders/m14a.html
footprint M14A_N (SOIC, 14-Leads, Body 8.6x3.9mm, Pitch 1.27mm, IPC Medium Density)
footprint M14A_L (SOIC, 14-Leads, Body 8.6x3.9mm, Pitch 1.27mm, IPC High Density)
footprint M14A_M (SOIC, 14-Leads, Body 8.6x3.9mm, Pitch 1.27mm, IPC Low Density)
pins: 1 DE (in), 2 DIN (in), 3 NC, 4 ROUT (out), 5 NC, 6 NC, 7 GND (power), 8 ~{RE} (in), 9 RI- (in), 10 RI+ (in), 11 DO- (out), 12 DO+ (out), 13 NC, 14 VCC (power)

## DS90LV019TM/NOPB
designator U?
3.3V or 5V LVDS Driver/Receiver, 14-pin Narrow SOIC, Pb-Free; PartNumber: DS90LV019TM/NOPB; Manufacturer: National Semiconductor; PackageTopMarking: NSUZXYTTE#*DS90LV019*TM; PowerWise: N; CompType: Interface IC; High-Reliability: Y; DatasheetVersion: Aug-2000; PackageVersion: revJ, Jan-1996; PackageReference: M14A; PackageDescription: Molded Package S.O., .150in Wide, 14 Lead; RoHS: Y; PinCount: 14; Code_JEDEC: MS-012AB; Code_IPC: SOIC127P600-14; ComponentLink1Description: Manufacturer URL; ComponentLink1URL: http://www.national.com/; ComponentLink2Description: DS90LV019 Datasheet; ComponentLink2URL: http://www.national.com/ds/DS/DS90LV019.pdf; ComponentLink3Description: DS90LV019 Web Page; ComponentLink3URL: http://www.national.com/pf/DS/DS90LV019.html; ComponentLink4Description: M14A Package Page; ComponentLink4URL: http://www.national.com/packaging/folders/m14a.html
footprint M14A_N (SOIC, 14-Leads, Body 8.6x3.9mm, Pitch 1.27mm, IPC Medium Density)
footprint M14A_L (SOIC, 14-Leads, Body 8.6x3.9mm, Pitch 1.27mm, IPC High Density)
footprint M14A_M (SOIC, 14-Leads, Body 8.6x3.9mm, Pitch 1.27mm, IPC Low Density)
pins: 1 DE (in), 2 DIN (in), 3 NC, 4 ROUT (out), 5 NC, 6 NC, 7 GND (power), 8 ~{RE} (in), 9 RI- (in), 10 RI+ (in), 11 DO- (out), 12 DO+ (out), 13 NC, 14 VCC (power)

## DS90LV019TMTC
designator U?
3.3V or 5V LVDS Driver/Receiver, 14-pin TSSOP; PartNumber: DS90LV019TMTC; Manufacturer: National Semiconductor; PackageTopMarking: NSZXYTT*LV019T*MTC; PowerWise: N; CompType: Interface IC; High-Reliability: Y; DatasheetVersion: Aug-2000; PackageVersion: revD, Jun-2003; PackageReference: MTC14; PackageDescription: Molded TSSOP, JEDEC, 5 x 4.4 x 0.9mm Body, 14 Lead, 0.65mm Pitch; RoHS: N; PinCount: 14; Code_JEDEC: MO-153-AB-1; ComponentLink1Description: Manufacturer URL; ComponentLink1URL: http://www.national.com/; ComponentLink2Description: DS90LV019 Datasheet; ComponentLink2URL: http://www.national.com/ds/DS/DS90LV019.pdf; ComponentLink3Description: DS90LV019 Web Page; ComponentLink3URL: http://www.national.com/pf/DS/DS90LV019.html; ComponentLink4Description: MTC14 Package Page; ComponentLink4URL: http://www.national.com/packaging/folders/mtc14.html
footprint MTC14_N (TSOP, 14-Leads, Body 5x4.4mm, Pitch 0.65mm, IPC Medium Density)
footprint MTC14_L (TSOP, 14-Leads, Body 5x4.4mm, Pitch 0.65mm, IPC High Density)
footprint MTC14_M (TSOP, 14-Leads, Body 5x4.4mm, Pitch 0.65mm, IPC Low Density)
pins: 1 DE (in), 2 DIN (in), 3 NC, 4 ROUT (out), 5 NC, 6 NC, 7 GND (power), 8 ~{RE} (in), 9 RI- (in), 10 RI+ (in), 11 DO- (out), 12 DO+ (out), 13 NC, 14 VCC (power)

## DS90LV019TMTC/NOPB
designator U?
3.3V or 5V LVDS Driver/Receiver, 14-pin TSSOP, Pb-Free; PartNumber: DS90LV019TMTC/NOPB; Manufacturer: National Semiconductor; PackageTopMarking: NSZXYTT*LV019T*MTC; PowerWise: N; CompType: Interface IC; High-Reliability: Y; DatasheetVersion: Aug-2000; PackageVersion: revD, Jun-2003; PackageReference: MTC14; PackageDescription: Molded TSSOP, JEDEC, 5 x 4.4 x 0.9mm Body, 14 Lead, 0.65mm Pitch; RoHS: Y; PinCount: 14; Code_JEDEC: MO-153-AB-1; ComponentLink1Description: Manufacturer URL; ComponentLink1URL: http://www.national.com/; ComponentLink2Description: DS90LV019 Datasheet; ComponentLink2URL: http://www.national.com/ds/DS/DS90LV019.pdf; ComponentLink3Description: DS90LV019 Web Page; ComponentLink3URL: http://www.national.com/pf/DS/DS90LV019.html; ComponentLink4Description: MTC14 Package Page; ComponentLink4URL: http://www.national.com/packaging/folders/mtc14.html
footprint MTC14_N (TSOP, 14-Leads, Body 5x4.4mm, Pitch 0.65mm, IPC Medium Density)
footprint MTC14_L (TSOP, 14-Leads, Body 5x4.4mm, Pitch 0.65mm, IPC High Density)
footprint MTC14_M (TSOP, 14-Leads, Body 5x4.4mm, Pitch 0.65mm, IPC Low Density)
pins: 1 DE (in), 2 DIN (in), 3 NC, 4 ROUT (out), 5 NC, 6 NC, 7 GND (power), 8 ~{RE} (in), 9 RI- (in), 10 RI+ (in), 11 DO- (out), 12 DO+ (out), 13 NC, 14 VCC (power)

## DS90LV019TMTCX
designator U?
3.3V or 5V LVDS Driver/Receiver, 14-pin TSSOP; PartNumber: DS90LV019TMTCX; Manufacturer: National Semiconductor; PackageTopMarking: NSZXYTT*LV019T*MTC; PowerWise: N; CompType: Interface IC; High-Reliability: Y; DatasheetVersion: Aug-2000; PackageVersion: revD, Jun-2003; PackageReference: MTC14; PackageDescription: Molded TSSOP, JEDEC, 5 x 4.4 x 0.9mm Body, 14 Lead, 0.65mm Pitch; RoHS: N; PinCount: 14; Code_JEDEC: MO-153-AB-1; ComponentLink1Description: Manufacturer URL; ComponentLink1URL: http://www.national.com/; ComponentLink2Description: DS90LV019 Datasheet; ComponentLink2URL: http://www.national.com/ds/DS/DS90LV019.pdf; ComponentLink3Description: DS90LV019 Web Page; ComponentLink3URL: http://www.national.com/pf/DS/DS90LV019.html; ComponentLink4Description: MTC14 Package Page; ComponentLink4URL: http://www.national.com/packaging/folders/mtc14.html
footprint MTC14_N (TSOP, 14-Leads, Body 5x4.4mm, Pitch 0.65mm, IPC Medium Density)
footprint MTC14_L (TSOP, 14-Leads, Body 5x4.4mm, Pitch 0.65mm, IPC High Density)
footprint MTC14_M (TSOP, 14-Leads, Body 5x4.4mm, Pitch 0.65mm, IPC Low Density)
pins: 1 DE (in), 2 DIN (in), 3 NC, 4 ROUT (out), 5 NC, 6 NC, 7 GND (power), 8 ~{RE} (in), 9 RI- (in), 10 RI+ (in), 11 DO- (out), 12 DO+ (out), 13 NC, 14 VCC (power)

## DS90LV019TMX
designator U?
3.3V or 5V LVDS Driver/Receiver, 14-pin Narrow SOIC; PartNumber: DS90LV019TMX; Manufacturer: National Semiconductor; PackageTopMarking: NSUZXYTTE#*DS90LV019*TM; PowerWise: N; CompType: Interface IC; High-Reliability: Y; DatasheetVersion: Aug-2000; PackageVersion: revJ, Jan-1996; PackageReference: M14A; PackageDescription: Molded Package S.O., .150in Wide, 14 Lead; RoHS: N; PinCount: 14; Code_JEDEC: MS-012AB; Code_IPC: SOIC127P600-14; ComponentLink1Description: Manufacturer URL; ComponentLink1URL: http://www.national.com/; ComponentLink2Description: DS90LV019 Datasheet; ComponentLink2URL: http://www.national.com/ds/DS/DS90LV019.pdf; ComponentLink3Description: DS90LV019 Web Page; ComponentLink3URL: http://www.national.com/pf/DS/DS90LV019.html; ComponentLink4Description: M14A Package Page; ComponentLink4URL: http://www.national.com/packaging/folders/m14a.html
footprint M14A_N (SOIC, 14-Leads, Body 8.6x3.9mm, Pitch 1.27mm, IPC Medium Density)
footprint M14A_L (SOIC, 14-Leads, Body 8.6x3.9mm, Pitch 1.27mm, IPC High Density)
footprint M14A_M (SOIC, 14-Leads, Body 8.6x3.9mm, Pitch 1.27mm, IPC Low Density)
pins: 1 DE (in), 2 DIN (in), 3 NC, 4 ROUT (out), 5 NC, 6 NC, 7 GND (power), 8 ~{RE} (in), 9 RI- (in), 10 RI+ (in), 11 DO- (out), 12 DO+ (out), 13 NC, 14 VCC (power)

## DS90LV027AHM
designator U?
High Temperature LVDS Dual Differential Driver, 8-pin Narrow SOIC; PartNumber: DS90LV027AHM; Manufacturer: National Semiconductor; PackageTopMarking: NSZXTT*LV27A*HM; PowerWise: N; CompType: Interface IC; High-Reliability: Y; DatasheetVersion: Sep-2005; PackageVersion: revM, May-2009; PackageReference: M08A; PackageDescription: SOIC Narrow, 4.9 x 3.9 x 1.45mm, 8 Lead, 1.27mm Pitch; RoHS: N; PinCount: 8; Code_JEDEC: MS-012-AA; Code_IPC: SOIC127P600-8; ComponentLink1Description: Manufacturer URL; ComponentLink1URL: http://www.national.com/; ComponentLink2Description: DS90LV027AH Datasheet; ComponentLink2URL: http://www.national.com/ds/DS/DS90LV027AH.pdf; ComponentLink3Description: DS90LV027AH Web Page; ComponentLink3URL: http://www.national.com/pf/DS/DS90LV027AH.html; ComponentLink4Description: M08A Package Page; ComponentLink4URL: http://www.national.com/packaging/folders/m08a.html
footprint M08A_N (SOIC, 8-Leads, Body 4.9x3.9mm, Pitch 1.27mm, IPC Medium Density)
footprint M08A_L (SOIC, 8-Leads, Body 4.9x3.9mm, Pitch 1.27mm, IPC High Density)
footprint M08A_M (SOIC, 8-Leads, Body 4.9x3.9mm, Pitch 1.27mm, IPC Low Density)
pins: 1 VCC (power), 2 DI1 (in), 3 DI2 (in), 4 GND (power), 5 DO-2 (out), 6 DO+2 (out), 7 DO+1 (out), 8 DO-1 (out)

## DS90LV027AHM/NOPB
designator U?
High Temperature LVDS Dual Differential Driver, 8 pin SOIC NARROW; PartNumber: DS90LV027AHM/NOPB; Manufacturer: National Semiconductor; PackageTopMarking: NSZXTT*LV27A*HM; PowerWise: N; CompType: Interface IC; High-Reliability: Y; DatasheetVersion: Sep-2005; PackageVersion: revM, May-2009; PackageReference: M08A; PackageDescription: SOIC Narrow, 4.9 x 3.9 x 1.45mm, 8 Lead, 1.27mm Pitch; RoHS: Y; PinCount: 8; Code_JEDEC: MS-012-AA; Code_IPC: SOIC127P600-8; ComponentLink1Description: Manufacturer URL; ComponentLink1URL: http://www.national.com/; ComponentLink2Description: DS90LV027AH Datasheet; ComponentLink2URL: http://www.national.com/ds/DS/DS90LV027AH.pdf; ComponentLink3Description: DS90LV027AH Web Page; ComponentLink3URL: http://www.national.com/pf/DS/DS90LV027AH.html; ComponentLink4Description: M08A Package Page; ComponentLink4URL: http://www.national.com/packaging/folders/m08a.html
footprint M08A_N (SOIC, 8-Leads, Body 4.9x3.9mm, Pitch 1.27mm, IPC Medium Density)
footprint M08A_L (SOIC, 8-Leads, Body 4.9x3.9mm, Pitch 1.27mm, IPC High Density)
footprint M08A_M (SOIC, 8-Leads, Body 4.9x3.9mm, Pitch 1.27mm, IPC Low Density)
pins: 1 VCC (power), 2 DI1 (in), 3 DI2 (in), 4 GND (power), 5 DO-2 (out), 6 DO+2 (out), 7 DO+1 (out), 8 DO-1 (out)

## DS90LV027AHMX
designator U?
High Temperature LVDS Dual Differential Driver, 8 pin SOIC NARROW; PartNumber: DS90LV027AHMX; Manufacturer: National Semiconductor; PackageTopMarking: NSZXTT*LV27A*HM; PowerWise: N; CompType: Interface IC; High-Reliability: Y; DatasheetVersion: Sep-2005; PackageVersion: revM, May-2009; PackageReference: M08A; PackageDescription: SOIC Narrow, 4.9 x 3.9 x 1.45mm, 8 Lead, 1.27mm Pitch; RoHS: N; PinCount: 8; Code_JEDEC: MS-012-AA; Code_IPC: SOIC127P600-8; ComponentLink1Description: Manufacturer URL; ComponentLink1URL: http://www.national.com/; ComponentLink2Description: DS90LV027AH Datasheet; ComponentLink2URL: http://www.national.com/ds/DS/DS90LV027AH.pdf; ComponentLink3Description: DS90LV027AH Web Page; ComponentLink3URL: http://www.national.com/pf/DS/DS90LV027AH.html; ComponentLink4Description: M08A Package Page; ComponentLink4URL: http://www.national.com/packaging/folders/m08a.html
footprint M08A_N (SOIC, 8-Leads, Body 4.9x3.9mm, Pitch 1.27mm, IPC Medium Density)
footprint M08A_L (SOIC, 8-Leads, Body 4.9x3.9mm, Pitch 1.27mm, IPC High Density)
footprint M08A_M (SOIC, 8-Leads, Body 4.9x3.9mm, Pitch 1.27mm, IPC Low Density)
pins: 1 VCC (power), 2 DI1 (in), 3 DI2 (in), 4 GND (power), 5 DO-2 (out), 6 DO+2 (out), 7 DO+1 (out), 8 DO-1 (out)

## DS90LV027AQMA
designator U?
Automotive LVDS Dual Differential Driver, 8-pin Narrow SOIC; PartNumber: DS90LV027AQMA; Manufacturer: National Semiconductor; PackageTopMarking: NSZXTT*90LV0*27AQM; PowerWise: N; CompType: Interface IC; High-Reliability: Y; DatasheetVersion: Oct-2008; PackageVersion: revM, May-2009; PackageReference: M08A; PackageDescription: SOIC Narrow, 4.9 x 3.9 x 1.45mm, 8 Lead, 1.27mm Pitch; RoHS: Y; PinCount: 8; Code_JEDEC: MS-012-AA; Code_IPC: SOIC127P600-8; ComponentLink1Description: Manufacturer URL; ComponentLink1URL: http://www.national.com/; ComponentLink2Description: DS90LV027AQ Datasheet; ComponentLink2URL: http://www.national.com/ds/DS/DS90LV027AQ.pdf; ComponentLink3Description: DS90LV027AQ Web Page; ComponentLink3URL: http://www.national.com/pf/DS/DS90LV027AQ.html; ComponentLink4Description: M08A Package Page; ComponentLink4URL: http://www.national.com/packaging/folders/m08a.html
footprint M08A_N (SOIC, 8-Leads, Body 4.9x3.9mm, Pitch 1.27mm, IPC Medium Density)
footprint M08A_L (SOIC, 8-Leads, Body 4.9x3.9mm, Pitch 1.27mm, IPC High Density)
footprint M08A_M (SOIC, 8-Leads, Body 4.9x3.9mm, Pitch 1.27mm, IPC Low Density)
pins: 1 VCC (power), 2 DI1 (in), 3 DI2 (in), 4 GND (power), 5 DO-2 (out), 6 DO+2 (out), 7 DO+1 (out), 8 DO-1 (out)

## DS90LV027AQMA/NOPB
designator U?
Automotive LVDS Dual Differential Driver, 8-pin Narrow SOIC, Pb-Free; PartNumber: DS90LV027AQMA/NOPB; Manufacturer: National Semiconductor; PackageTopMarking: NSZXTT*90LV0*27AQM; PowerWise: N; CompType: Interface IC; High-Reliability: Y; DatasheetVersion: Oct-2008; PackageVersion: revM, May-2009; PackageReference: M08A; PackageDescription: SOIC Narrow, 4.9 x 3.9 x 1.45mm, 8 Lead, 1.27mm Pitch; RoHS: Y; PinCount: 8; Code_JEDEC: MS-012-AA; Code_IPC: SOIC127P600-8; ComponentLink1Description: Manufacturer URL; ComponentLink1URL: http://www.national.com/; ComponentLink2Description: DS90LV027AQ Datasheet; ComponentLink2URL: http://www.national.com/ds/DS/DS90LV027AQ.pdf; ComponentLink3Description: DS90LV027AQ Web Page; ComponentLink3URL: http://www.national.com/pf/DS/DS90LV027AQ.html; ComponentLink4Description: M08A Package Page; ComponentLink4URL: http://www.national.com/packaging/folders/m08a.html
footprint M08A_N (SOIC, 8-Leads, Body 4.9x3.9mm, Pitch 1.27mm, IPC Medium Density)
footprint M08A_L (SOIC, 8-Leads, Body 4.9x3.9mm, Pitch 1.27mm, IPC High Density)
footprint M08A_M (SOIC, 8-Leads, Body 4.9x3.9mm, Pitch 1.27mm, IPC Low Density)
pins: 1 VCC (power), 2 DI1 (in), 3 DI2 (in), 4 GND (power), 5 DO-2 (out), 6 DO+2 (out), 7 DO+1 (out), 8 DO-1 (out)

## DS90LV027AQMAX/NOPB
designator U?
Automotive LVDS Dual Differential Driver, 8-pin Narrow SOIC, Pb-Free; PartNumber: DS90LV027AQMAX/NOPB; Manufacturer: National Semiconductor; PackageTopMarking: NSZXTT*90LV0*27AQM; PowerWise: N; CompType: Interface IC; High-Reliability: Y; DatasheetVersion: Oct-2008; PackageVersion: revM, May-2009; PackageReference: M08A; PackageDescription: SOIC Narrow, 4.9 x 3.9 x 1.45mm, 8 Lead, 1.27mm Pitch; RoHS: Y; PinCount: 8; Code_JEDEC: MS-012-AA; Code_IPC: SOIC127P600-8; ComponentLink1Description: Manufacturer URL; ComponentLink1URL: http://www.national.com/; ComponentLink2Description: DS90LV027AQ Datasheet; ComponentLink2URL: http://www.national.com/ds/DS/DS90LV027AQ.pdf; ComponentLink3Description: DS90LV027AQ Web Page; ComponentLink3URL: http://www.national.com/pf/DS/DS90LV027AQ.html; ComponentLink4Description: M08A Package Page; ComponentLink4URL: http://www.national.com/packaging/folders/m08a.html
footprint M08A_N (SOIC, 8-Leads, Body 4.9x3.9mm, Pitch 1.27mm, IPC Medium Density)
footprint M08A_L (SOIC, 8-Leads, Body 4.9x3.9mm, Pitch 1.27mm, IPC High Density)
footprint M08A_M (SOIC, 8-Leads, Body 4.9x3.9mm, Pitch 1.27mm, IPC Low Density)
pins: 1 VCC (power), 2 DI1 (in), 3 DI2 (in), 4 GND (power), 5 DO-2 (out), 6 DO+2 (out), 7 DO+1 (out), 8 DO-1 (out)

## DS90LV027ATM
designator U?
LVDS Dual High Speed Differential Driver, 8-pin Narrow SOIC; PartNumber: DS90LV027ATM; Manufacturer: National Semiconductor; PackageTopMarking: NSZXTT*LV27A*TM; PowerWise: N; CompType: Interface IC; High-Reliability: Y; DatasheetVersion: Aug-2005; PackageVersion: revM, May-2009; PackageReference: M08A; PackageDescription: SOIC Narrow, 4.9 x 3.9 x 1.45mm, 8 Lead, 1.27mm Pitch; RoHS: N; PinCount: 8; Code_JEDEC: MS-012-AA; Code_IPC: SOIC127P600-8; ComponentLink1Description: Manufacturer URL; ComponentLink1URL: http://www.national.com/; ComponentLink2Description: DS90LV027A Datasheet; ComponentLink2URL: http://www.national.com/ds/DS/DS90LV027A.pdf; ComponentLink3Description: DS90LV027A Web Page; ComponentLink3URL: http://www.national.com/pf/DS/DS90LV027A.html; ComponentLink4Description: M08A Package Page; ComponentLink4URL: http://www.national.com/packaging/folders/m08a.html
footprint M08A_N (SOIC, 8-Leads, Body 4.9x3.9mm, Pitch 1.27mm, IPC Medium Density)
footprint M08A_L (SOIC, 8-Leads, Body 4.9x3.9mm, Pitch 1.27mm, IPC High Density)
footprint M08A_M (SOIC, 8-Leads, Body 4.9x3.9mm, Pitch 1.27mm, IPC Low Density)
pins: 1 VCC (power), 2 DI1 (in), 3 DI2 (in), 4 GND (power), 5 DO-2 (out), 6 DO+2 (out), 7 DO+1 (out), 8 DO-1 (out)

## DS90LV027ATM/NOPB
designator U?
LVDS Dual High Speed Differential Driver, 8-pin Narrow SOIC, Pb-Free; PartNumber: DS90LV027ATM/NOPB; Manufacturer: National Semiconductor; PackageTopMarking: NSZXTT*LV27A*TM; PowerWise: N; CompType: Interface IC; High-Reliability: Y; DatasheetVersion: Aug-2005; PackageVersion: revM, May-2009; PackageReference: M08A; PackageDescription: SOIC Narrow, 4.9 x 3.9 x 1.45mm, 8 Lead, 1.27mm Pitch; RoHS: Y; PinCount: 8; Code_JEDEC: MS-012-AA; Code_IPC: SOIC127P600-8; ComponentLink1Description: Manufacturer URL; ComponentLink1URL: http://www.national.com/; ComponentLink2Description: DS90LV027A Datasheet; ComponentLink2URL: http://www.national.com/ds/DS/DS90LV027A.pdf; ComponentLink3Description: DS90LV027A Web Page; ComponentLink3URL: http://www.national.com/pf/DS/DS90LV027A.html; ComponentLink4Description: M08A Package Page; ComponentLink4URL: http://www.national.com/packaging/folders/m08a.html
footprint M08A_N (SOIC, 8-Leads, Body 4.9x3.9mm, Pitch 1.27mm, IPC Medium Density)
footprint M08A_L (SOIC, 8-Leads, Body 4.9x3.9mm, Pitch 1.27mm, IPC High Density)
footprint M08A_M (SOIC, 8-Leads, Body 4.9x3.9mm, Pitch 1.27mm, IPC Low Density)
pins: 1 VCC (power), 2 DI1 (in), 3 DI2 (in), 4 GND (power), 5 DO-2 (out), 6 DO+2 (out), 7 DO+1 (out), 8 DO-1 (out)

## DS90LV027ATMX
designator U?
LVDS Dual High Speed Differential Driver, 8-pin Narrow SOIC; PartNumber: DS90LV027ATMX; Manufacturer: National Semiconductor; PackageTopMarking: NSZXTT*LV27A*TM; PowerWise: N; CompType: Interface IC; High-Reliability: Y; DatasheetVersion: Aug-2005; PackageVersion: revM, May-2009; PackageReference: M08A; PackageDescription: SOIC Narrow, 4.9 x 3.9 x 1.45mm, 8 Lead, 1.27mm Pitch; RoHS: N; PinCount: 8; Code_JEDEC: MS-012-AA; Code_IPC: SOIC127P600-8; ComponentLink1Description: Manufacturer URL; ComponentLink1URL: http://www.national.com/; ComponentLink2Description: DS90LV027A Datasheet; ComponentLink2URL: http://www.national.com/ds/DS/DS90LV027A.pdf; ComponentLink3Description: DS90LV027A Web Page; ComponentLink3URL: http://www.national.com/pf/DS/DS90LV027A.html; ComponentLink4Description: M08A Package Page; ComponentLink4URL: http://www.national.com/packaging/folders/m08a.html
footprint M08A_N (SOIC, 8-Leads, Body 4.9x3.9mm, Pitch 1.27mm, IPC Medium Density)
footprint M08A_L (SOIC, 8-Leads, Body 4.9x3.9mm, Pitch 1.27mm, IPC High Density)
footprint M08A_M (SOIC, 8-Leads, Body 4.9x3.9mm, Pitch 1.27mm, IPC Low Density)
pins: 1 VCC (power), 2 DI1 (in), 3 DI2 (in), 4 GND (power), 5 DO-2 (out), 6 DO+2 (out), 7 DO+1 (out), 8 DO-1 (out)

## DS90LV027M
designator U?
LVDS Dual High Speed Differential Driver, 8-pin Narrow SOIC; PartNumber: DS90LV027M; Manufacturer: National Semiconductor; PackageTopMarking: NSZXTT*90LV*027M; PowerWise: N; CompType: Interface IC; High-Reliability: Y; DatasheetVersion: Aug-2005; PackageVersion: revM, May-2009; PackageReference: M08A; PackageDescription: SOIC Narrow, 4.9 x 3.9 x 1.45mm, 8 Lead, 1.27mm Pitch; RoHS: N; PinCount: 8; Code_JEDEC: MS-012-AA; Code_IPC: SOIC127P600-8; ComponentLink1Description: Manufacturer URL; ComponentLink1URL: http://www.national.com/; ComponentLink2Description: DS90LV027 Datasheet; ComponentLink2URL: http://www.national.com/ds/DS/DS90LV027.pdf; ComponentLink3Description: DS90LV027 Web Page; ComponentLink3URL: http://www.national.com/pf/DS/DS90LV027.html; ComponentLink4Description: M08A Package Page; ComponentLink4URL: http://www.national.com/packaging/folders/m08a.html
footprint M08A_N (SOIC, 8-Leads, Body 4.9x3.9mm, Pitch 1.27mm, IPC Medium Density)
footprint M08A_L (SOIC, 8-Leads, Body 4.9x3.9mm, Pitch 1.27mm, IPC High Density)
footprint M08A_M (SOIC, 8-Leads, Body 4.9x3.9mm, Pitch 1.27mm, IPC Low Density)
pins: 1 VCC (power), 2 DI1 (in), 3 DI2 (in), 4 GND (power), 5 DO-2 (out), 6 DO+2 (out), 7 DO+1 (out), 8 DO-1 (out)

## DS90LV027M/NOPB
designator U?
LVDS Dual High Speed Differential Driver, 8-pin Narrow SOIC, Pb-Free; PartNumber: DS90LV027M/NOPB; Manufacturer: National Semiconductor; PackageTopMarking: NSZXTT*90LV*027M; PowerWise: N; CompType: Interface IC; High-Reliability: Y; DatasheetVersion: Aug-2005; PackageVersion: revM, May-2009; PackageReference: M08A; PackageDescription: SOIC Narrow, 4.9 x 3.9 x 1.45mm, 8 Lead, 1.27mm Pitch; RoHS: Y; PinCount: 8; Code_JEDEC: MS-012-AA; Code_IPC: SOIC127P600-8; ComponentLink1Description: Manufacturer URL; ComponentLink1URL: http://www.national.com/; ComponentLink2Description: DS90LV027 Datasheet; ComponentLink2URL: http://www.national.com/ds/DS/DS90LV027.pdf; ComponentLink3Description: DS90LV027 Web Page; ComponentLink3URL: http://www.national.com/pf/DS/DS90LV027.html; ComponentLink4Description: M08A Package Page; ComponentLink4URL: http://www.national.com/packaging/folders/m08a.html
footprint M08A_N (SOIC, 8-Leads, Body 4.9x3.9mm, Pitch 1.27mm, IPC Medium Density)
footprint M08A_L (SOIC, 8-Leads, Body 4.9x3.9mm, Pitch 1.27mm, IPC High Density)
footprint M08A_M (SOIC, 8-Leads, Body 4.9x3.9mm, Pitch 1.27mm, IPC Low Density)
pins: 1 VCC (power), 2 DI1 (in), 3 DI2 (in), 4 GND (power), 5 DO-2 (out), 6 DO+2 (out), 7 DO+1 (out), 8 DO-1 (out)

## DS90LV027MX
designator U?
LVDS Dual High Speed Differential Driver, 8-pin Narrow SOIC; PartNumber: DS90LV027MX; Manufacturer: National Semiconductor; PackageTopMarking: NSZXTT*90LV*027M; PowerWise: N; CompType: Interface IC; High-Reliability: Y; DatasheetVersion: Aug-2005; PackageVersion: revM, May-2009; PackageReference: M08A; PackageDescription: SOIC Narrow, 4.9 x 3.9 x 1.45mm, 8 Lead, 1.27mm Pitch; RoHS: N; PinCount: 8; Code_JEDEC: MS-012-AA; Code_IPC: SOIC127P600-8; ComponentLink1Description: Manufacturer URL; ComponentLink1URL: http://www.national.com/; ComponentLink2Description: DS90LV027 Datasheet; ComponentLink2URL: http://www.national.com/ds/DS/DS90LV027.pdf; ComponentLink3Description: DS90LV027 Web Page; ComponentLink3URL: http://www.national.com/pf/DS/DS90LV027.html; ComponentLink4Description: M08A Package Page; ComponentLink4URL: http://www.national.com/packaging/folders/m08a.html
footprint M08A_N (SOIC, 8-Leads, Body 4.9x3.9mm, Pitch 1.27mm, IPC Medium Density)
footprint M08A_L (SOIC, 8-Leads, Body 4.9x3.9mm, Pitch 1.27mm, IPC High Density)
footprint M08A_M (SOIC, 8-Leads, Body 4.9x3.9mm, Pitch 1.27mm, IPC Low Density)
pins: 1 VCC (power), 2 DI1 (in), 3 DI2 (in), 4 GND (power), 5 DO-2 (out), 6 DO+2 (out), 7 DO+1 (out), 8 DO-1 (out)